# EAGLE library part AT42QT1110 (library mille-feuille)
11-key Touch Sensor IC
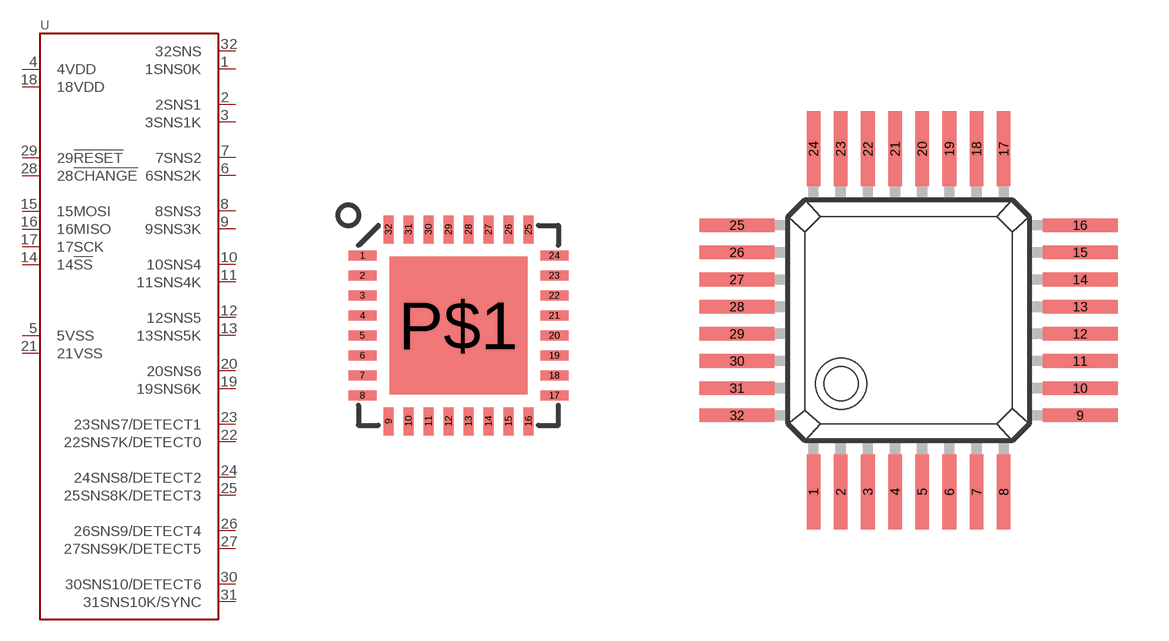
[diagram p41: symbol with the pads of QFN32; footprints QFN32, QFP-32]

Designator prefix U

## AT42QT1110-MU  [QFN32]
1  1SNS0K
2  2SNS1
3  3SNS1K
4  4VDD
5  5VSS
6  6SNS2K
7  7SNS2
8  8SNS3
9  9SNS3K
10  10SNS4
11  11SNS4K
12  12SNS5
13  13SNS5K
14  14!SS
15  15MOSI
16  16MISO
17  17SCK
18  18VDD
19  19SNS6K
20  20SNS6
21  21VSS
22  22SNS7K/DETECT0
23  23SNS7/DETECT1
24  24SNS8/DETECT2
25  25SNS8K/DETECT3
26  26SNS9/DETECT4
27  27SNS9K/DETECT5
28  28!CHANGE
29  29!RESET
30  30SNS10/DETECT6
31  31SNS10K/SYNC
32  32SNS

## AT42QT1110-AU  [QFP-32]
Pads as for QFN32

## Footprint QFN32 (pad centres in mm)
smd 0.7 x 0.25: 1 -2.4,1.75; 2 -2.4,1.25; 3 -2.4,0.75; 4 -2.4,0.25; 5 -2.4,-0.25; 6 -2.4,-0.75; 7 -2.4,-1.25; 8 -2.4,-1.75; 17 2.4,-1.75; 18 2.4,-1.25; 19 2.4,-0.75; 20 2.4,-0.25; 21 2.4,0.25; 22 2.4,0.75; 23 2.4,1.25; 24 2.4,1.75
smd 0.25 x 0.7: 9 -1.75,-2.4; 10 -1.25,-2.4; 11 -0.75,-2.4; 12 -0.25,-2.4; 13 0.25,-2.4; 14 0.75,-2.4; 15 1.25,-2.4; 16 1.75,-2.4; 25 1.75,2.4; 26 1.25,2.4; 27 0.75,2.4; 28 0.25,2.4; 29 -0.25,2.4; 30 -0.75,2.4; 31 -1.25,2.4; 32 -1.75,2.4
smd 3.45 x 3.45: P$1 0,0

## Footprint QFP-32 (pad centres in mm)
Quad Flat Package
smd 0.4 x 2.2: 1 -2.8,-5.05; 2 -2,-5.05; 3 -1.2,-5.05; 4 -0.4,-5.05; 5 0.4,-5.05; 6 1.2,-5.05; 7 2,-5.05; 8 2.8,-5.05; 17 2.8,5.05; 18 2,5.05; 19 1.2,5.05; 20 0.4,5.05; 21 -0.4,5.05; 22 -1.2,5.05; 23 -2,5.05; 24 -2.8,5.05
smd 2.2 x 0.4: 9 5.05,-2.8; 10 5.05,-2; 11 5.05,-1.2; 12 5.05,-0.4; 13 5.05,0.4; 14 5.05,1.2; 15 5.05,2; 16 5.05,2.8; 25 -5.05,2.8; 26 -5.05,2; 27 -5.05,1.2; 28 -5.05,0.4; 29 -5.05,-0.4; 30 -5.05,-1.2; 31 -5.05,-2; 32 -5.05,-2.8